# Altium schematic symbol library tan_nhiet_38x35x12.SchLib: 1 symbol
Pins are listed as number, name and electrical type; pins without a type are passive.

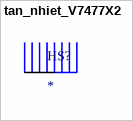
[diagram p0: symbol tan_nhiet_V7477X2]

## tan_nhiet_V7477X2
designator HS?
Extruded heatsink with solderpins - 11K/W - 38,1x35x12,7mm - black anodized - TOP-3, TO-220, SOT-32 retaining spring V03HK; MF: Assmann WSW Components; MP: V7477X2; SnapEDA_Link: https://www.snapeda.com/parts/V7477X2/Assmann+Electronics/view-part/?ref=snap; Package: None; Value: *; Check_prices: https://www.snapeda.com/parts/V7477X2/Assmann+Electronics/view-part/?ref=eda
footprint HSINK_V7477X2
pins: HS1 S, HS2 S